# Altium integrated library TI Power Management Power Modules.IntLib: 831 symbols (part 6 of 44)
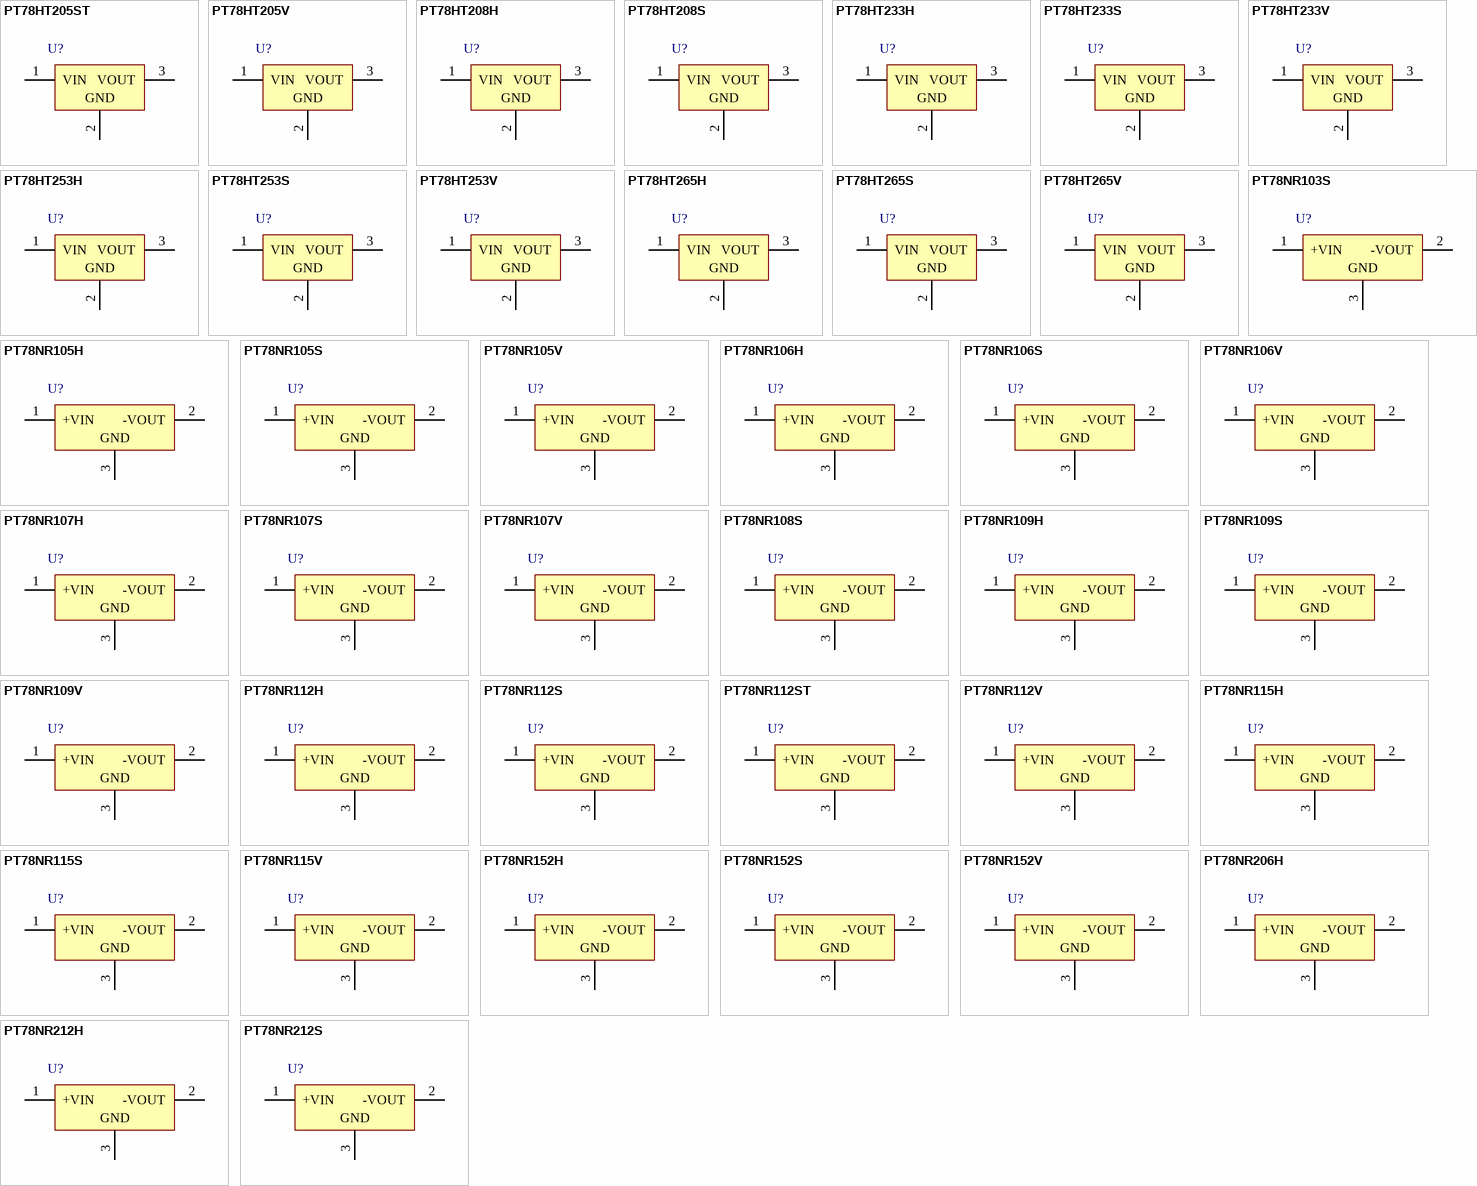
[diagram p28: symbols PT78HT205ST to PT78NR212S]

## PT78HT253S
designator U?
5.25 V Vout 2 Amp Wide-Input Positive Step-Down ISR, -40 to 85 degC, 3-pin Module (EFC3), Pb-Free (RoHS); Manufacturer: Texas Instruments; PartNumber: PT78HT253S; Iout(Max)(A): 2; Regulated Outputs(#): 1; SubFamily: Non-Isolated POL; Vin(Max)(V): 28; Vin(Min)(V): 9.25; Vout(Max)(V): 5.25; DatasheetVersion: SLTS057B; PackageVersion: 4203862/C; PackageReference: EFC3; PackageDescription: 3-Pin Plastic In-Line, Body 23.87 x 22.86 mm; Supplier 1: Digi-Key; Supplier Part Number 1: 296-20253-ND; Supplier 2: Newark; Supplier Part Number 2: 75C7153; Supplier 3: Mouser; Supplier Part Number 3: 595-PT78HT253S; Eco-Plan: Pb-Free (RoHS); Vout(Min)(V): 5.25; Mounting Technology: Surface Mount; ComponentLink1Description: Manufacturer URL; ComponentLink1URL: http://www.ti.com/; ComponentLink2Description: Datasheet; ComponentLink2URL: http://www.ti.com/general/docs/lit/getliterature.tsp?genericPartNumber=PT78HT253&fileType=pdf; ComponentLink3Description: Package Specification; ComponentLink3URL: http://www.ti.com/lit/ml/mpsi050b/mpsi050b.pdf; ComponentLink4Description: URL Link1; ComponentLink4URL: Samples URL:http://www.ti.com/product/pt78ht253#samples
footprint TI-EFC3_V (3-Leads Plastic In-Line, Body 22.86x23.87mm)
pins: 1 VIN (power), 2 GND (power), 3 VOUT (power)

## PT78HT253V
designator U?
5.25 V Vout 2 Amp Wide-Input Positive Step-Down ISR, -40 to 85 degC, 3-pin Module (EFD3), Pb-Free (RoHS); Manufacturer: Texas Instruments; PartNumber: PT78HT253V; Iout(Max)(A): 2; Regulated Outputs(#): 1; SubFamily: Non-Isolated POL; Vin(Max)(V): 28; Vin(Min)(V): 9.25; Vout(Max)(V): 5.25; DatasheetVersion: SLTS057B; PackageVersion: 4203860/A; PackageReference: EFD3; PackageDescription: 3-Pin Plastic In-Line, Body 23.87 x 22.86 mm; Supplier 1: Digi-Key; Supplier Part Number 1: 296-20254-ND; Supplier 2: Newark; Supplier Part Number 2: 75C7154; Supplier 3: Mouser; Supplier Part Number 3: 595-PT78HT253V; Eco-Plan: Pb-Free (RoHS); Vout(Min)(V): 5.25; Mounting Technology: Through Hole; ComponentLink1Description: Manufacturer URL; ComponentLink1URL: http://www.ti.com/; ComponentLink2Description: Datasheet; ComponentLink2URL: http://www.ti.com/general/docs/lit/getliterature.tsp?genericPartNumber=PT78HT253&fileType=pdf; ComponentLink3Description: Package Specification; ComponentLink3URL: http://www.ti.com/lit/ml/mpsi048/mpsi048.pdf; ComponentLink4Description: URL Link1; ComponentLink4URL: Samples URL:http://www.ti.com/product/tps55010#samples
footprint TI-EFD3_V (Module, 3-Leads, Body 22.86x7.87mm)
pins: 1 VIN (power), 2 GND (power), 3 VOUT (power)

## PT78HT265H
designator U?
6.5 V Vout 2 Amp Wide-Input Positive Step-Down ISR, -40 to 85 degC, 3-pin Module (EFA3), Pb-Free (RoHS); Manufacturer: Texas Instruments; PartNumber: PT78HT265H; Iout(Max)(A): 2; Regulated Outputs(#): 1; SubFamily: Non-Isolated POL; Vin(Max)(V): 28; Vin(Min)(V): 10.5; Vout(Max)(V): 6.5; DatasheetVersion: SLTS057B; PackageVersion: 4203861/C; PackageReference: EFA3; PackageDescription: 3-Pin Plastic In-Line, Body 23.87 x 22.86 mm; Supplier 1: Digi-Key; Supplier Part Number 1: 296-32700-ND; Supplier 2: Farnell; Supplier Part Number 2: 1612817; Supplier 3: Newark; Supplier Part Number 3: 78M1806; Supplier 4: Mouser; Supplier Part Number 4: 595-PT78HT265H; Eco-Plan: Pb-Free (RoHS); Vout(Min)(V): 6.5; Mounting Technology: Through Hole; ComponentLink1Description: Manufacturer URL; ComponentLink1URL: http://www.ti.com/; ComponentLink2Description: Datasheet; ComponentLink2URL: http://www.ti.com/general/docs/lit/getliterature.tsp?genericPartNumber=PT78HT265&fileType=pdf; ComponentLink3Description: Package Specification; ComponentLink3URL: http://www.ti.com/lit/ml/mpsi049b/mpsi049b.pdf; ComponentLink4Description: URL Link1; ComponentLink4URL: Samples URL:http://www.ti.com/product/pt78ht265#samples
footprint TI-EFA3_V (Module, 3-Leads, Body 23.87x22.86 mm)
pins: 1 VIN (power), 2 GND (power), 3 VOUT (power)

## PT78HT265S
designator U?
6.5 V Vout 2 Amp Wide-Input Positive Step-Down ISR, -40 to 85 degC, 3-pin Module (EFC3), Pb-Free (RoHS); Manufacturer: Texas Instruments; PartNumber: PT78HT265S; Iout(Max)(A): 2; Regulated Outputs(#): 1; SubFamily: Non-Isolated POL; Vin(Max)(V): 28; Vin(Min)(V): 10.5; Vout(Max)(V): 6.5; DatasheetVersion: SLTS057B; PackageVersion: 4203862/C; PackageReference: EFC3; PackageDescription: 3-Pin Plastic In-Line, Body 23.87 x 22.86 mm; Supplier 1: Digi-Key; Supplier Part Number 1: 296-20255-ND; Supplier 2: Farnell; Supplier Part Number 2: 1755069; Supplier 3: Newark; Supplier Part Number 3: 75C7156; Supplier 4: Mouser; Supplier Part Number 4: 595-PT78HT265S; Eco-Plan: Pb-Free (RoHS); Vout(Min)(V): 6.5; Mounting Technology: Surface Mount; ComponentLink1Description: Manufacturer URL; ComponentLink1URL: http://www.ti.com/; ComponentLink2Description: Datasheet; ComponentLink2URL: http://www.ti.com/general/docs/lit/getliterature.tsp?genericPartNumber=PT78HT265&fileType=pdf; ComponentLink3Description: Package Specification; ComponentLink3URL: http://www.ti.com/lit/ml/mpsi050b/mpsi050b.pdf; ComponentLink4Description: URL Link1; ComponentLink4URL: Samples URL:http://www.ti.com/product/pt78ht265#samples
footprint TI-EFC3_V (3-Leads Plastic In-Line, Body 22.86x23.87mm)
pins: 1 VIN (power), 2 GND (power), 3 VOUT (power)

## PT78HT265V
designator U?
6.5 V Vout 2 Amp Wide-Input Positive Step-Down ISR, -40 to 85 degC, 3-pin Module (EFD3), Pb-Free (RoHS); Manufacturer: Texas Instruments; PartNumber: PT78HT265V; Iout(Max)(A): 2; Regulated Outputs(#): 1; SubFamily: Non-Isolated POL; Vin(Max)(V): 28; Vin(Min)(V): 10.5; Vout(Max)(V): 6.5; DatasheetVersion: SLTS057B; PackageVersion: 4203860/A; PackageReference: EFD3; PackageDescription: 3-Pin Plastic In-Line, Body 23.87 x 22.86 mm; Supplier 1: Digi-Key; Supplier Part Number 1: 296-20256-ND; Supplier 2: Newark; Supplier Part Number 2: 75C7158; Supplier 3: Mouser; Supplier Part Number 3: 595-PT78HT265V; Eco-Plan: Pb-Free (RoHS); Vout(Min)(V): 6.5; Mounting Technology: Through Hole; ComponentLink1Description: Manufacturer URL; ComponentLink1URL: http://www.ti.com/; ComponentLink2Description: Datasheet; ComponentLink2URL: http://www.ti.com/general/docs/lit/getliterature.tsp?genericPartNumber=PT78HT265&fileType=pdf; ComponentLink3Description: Package Specification; ComponentLink3URL: http://www.ti.com/lit/ml/mpsi048/mpsi048.pdf; ComponentLink4Description: URL Link1; ComponentLink4URL: Samples URL:http://www.ti.com/product/pt78ht265#samples
footprint TI-EFD3_V (Module, 3-Leads, Body 22.86x7.87mm)
pins: 1 VIN (power), 2 GND (power), 3 VOUT (power)

## PT78NR103S
designator U?
-3 V Vout 1 Amp Wide-Input Plus to Minus Voltage ISR, -40 to 85 degC, 3-pin Module (EFC3), Pb-Free (RoHS); Manufacturer: Texas Instruments; PartNumber: PT78NR103S; Iout(Max)(A): 1; SubFamily: Non-Isolated POL; Vin(Max)(V): 25; Vin(Min)(V): 7; DatasheetVersion: SLTS058B; PackageVersion: 4203862/C; PackageReference: EFC3; PackageDescription: 3-Pin Plastic In-Line, Body 23.87 x 22.86 mm; Supplier 1: Digi-Key; Supplier Part Number 1: 296-20258-ND; Supplier 2: Mouser; Supplier Part Number 2: 595-PT78NR103S; Eco-Plan: Pb-Free (RoHS); Regulated Outputs(#): 1; Vout(Max)(V): -3; Vout(Min)(V): -3; Mounting Technology: Surface Mount; ComponentLink1Description: Manufacturer URL; ComponentLink1URL: http://www.ti.com/; ComponentLink2Description: Datasheet; ComponentLink2URL: http://www.ti.com/general/docs/lit/getliterature.tsp?genericPartNumber=PT78NR103&fileType=pdf; ComponentLink3Description: Package Specification; ComponentLink3URL: http://www.ti.com/lit/ml/mpsi050b/mpsi050b.pdf; ComponentLink4Description: URL Link1; ComponentLink4URL: Samples URL:http://www.ti.com/product/pt78nr103#samples
footprint TI-EFC3_V (3-Leads Plastic In-Line, Body 22.86x23.87mm)
pins: 1 +VIN (power), 2 -VOUT (power), 3 GND (power)

## PT78NR105H
designator U?
-5 V Vout 1 Amp Wide-Input Plus to Minus Voltage ISR, -40 to 85 degC, 3-pin Module (EFA3), Pb-Free (RoHS); Manufacturer: Texas Instruments; PartNumber: PT78NR105H; Iout(Max)(A): 1; SubFamily: Non-Isolated POL; Vin(Max)(V): 25; Vin(Min)(V): 7; DatasheetVersion: SLTS058B; PackageVersion: 4203861/C; PackageReference: EFA3; PackageDescription: 3-Pin Plastic In-Line, Body 23.87 x 22.86 mm; Supplier 1: Digi-Key; Supplier Part Number 1: PT78NR105H-ND; Supplier 2: Newark; Supplier Part Number 2: 15M7373; Supplier 3: Mouser; Supplier Part Number 3: 595-PT78NR105H; Eco-Plan: Pb-Free (RoHS); Regulated Outputs(#): 1; Vout(Max)(V): -5; Vout(Min)(V): -5; Mounting Technology: Through Hole; ComponentLink1Description: Manufacturer URL; ComponentLink1URL: http://www.ti.com/; ComponentLink2Description: Datasheet; ComponentLink2URL: http://www.ti.com/general/docs/lit/getliterature.tsp?genericPartNumber=PT78NR105&fileType=pdf; ComponentLink3Description: Package Specification; ComponentLink3URL: http://www.ti.com/lit/ml/mpsi049b/mpsi049b.pdf; ComponentLink4Description: URL Link1; ComponentLink4URL: Samples URL:http://www.ti.com/product/pt78nr105#samples
footprint TI-EFA3_V (Module, 3-Leads, Body 23.87x22.86 mm)
pins: 1 +VIN (power), 2 -VOUT (power), 3 GND (power)

## PT78NR105S
designator U?
-5 V Vout 1 Amp Wide-Input Plus to Minus Voltage ISR, -40 to 85 degC, 3-pin Module (EFC3), Pb-Free (RoHS); Manufacturer: Texas Instruments; PartNumber: PT78NR105S; Iout(Max)(A): 1; SubFamily: Non-Isolated POL; Vin(Max)(V): 25; Vin(Min)(V): 7; DatasheetVersion: SLTS058B; PackageVersion: 4203862/C; PackageReference: EFC3; PackageDescription: 3-Pin Plastic In-Line, Body 23.87 x 22.86 mm; Supplier 1: Digi-Key; Supplier Part Number 1: PT78NR105S-ND; Supplier 2: Newark; Supplier Part Number 2: 75C7166; Supplier 3: Mouser; Supplier Part Number 3: 595-PT78NR105S; Eco-Plan: Pb-Free (RoHS); Regulated Outputs(#): 1; Vout(Max)(V): -5; Vout(Min)(V): -5; Mounting Technology: Surface Mount; ComponentLink1Description: Manufacturer URL; ComponentLink1URL: http://www.ti.com/; ComponentLink2Description: Datasheet; ComponentLink2URL: http://www.ti.com/general/docs/lit/getliterature.tsp?genericPartNumber=PT78NR105&fileType=pdf; ComponentLink3Description: Package Specification; ComponentLink3URL: http://www.ti.com/lit/ml/mpsi050b/mpsi050b.pdf; ComponentLink4Description: URL Link1; ComponentLink4URL: Samples URL:http://www.ti.com/product/pt78nr105#samples
footprint TI-EFC3_V (3-Leads Plastic In-Line, Body 22.86x23.87mm)
pins: 1 +VIN (power), 2 -VOUT (power), 3 GND (power)

## PT78NR105V
designator U?
-5 V Vout 1 Amp Wide-Input Plus to Minus Voltage ISR, -40 to 85 degC, 3-pin Module (EFD3), Pb-Free (RoHS); Manufacturer: Texas Instruments; PartNumber: PT78NR105V; Iout(Max)(A): 1; SubFamily: Non-Isolated POL; Vin(Max)(V): 25; Vin(Min)(V): 7; DatasheetVersion: SLTS058B; PackageVersion: 4203860/A; PackageReference: EFD3; PackageDescription: 3-Pin Plastic In-Line, Body 23.87 x 22.86 mm; Supplier 1: Digi-Key; Supplier Part Number 1: PT78NR105V-ND; Supplier 2: Newark; Supplier Part Number 2: 75C7168; Supplier 3: Mouser; Supplier Part Number 3: 595-PT78NR105V; Eco-Plan: Pb-Free (RoHS); Regulated Outputs(#): 1; Vout(Max)(V): -5; Vout(Min)(V): -5; Mounting Technology: Through Hole; ComponentLink1Description: Manufacturer URL; ComponentLink1URL: http://www.ti.com/; ComponentLink2Description: Datasheet; ComponentLink2URL: http://www.ti.com/general/docs/lit/getliterature.tsp?genericPartNumber=PT78NR105&fileType=pdf; ComponentLink3Description: Package Specification; ComponentLink3URL: http://www.ti.com/lit/ml/mpsi048/mpsi048.pdf; ComponentLink4Description: URL Link1; ComponentLink4URL: Samples URL:http://www.ti.com/product/pt78nr105#samples
footprint TI-EFD3_V (Module, 3-Leads, Body 22.86x7.87mm)
pins: 1 +VIN (power), 2 -VOUT (power), 3 GND (power)

## PT78NR106H
designator U?
-6 V Vout, 0.8 Amp Wide-Input Plus to Minus Voltage ISR, -40 to 85 degC, 3-pin Module (EFA3), Pb-Free (RoHS); Manufacturer: Texas Instruments; PartNumber: PT78NR106H; Iout(Max)(A): 0.8; Regulated Outputs(#): 1; SubFamily: Non-Isolated POL; Vin(Max)(V): 21; Vin(Min)(V): 7; DatasheetVersion: SLTS058B; PackageVersion: 4203861/C; PackageReference: EFA3; PackageDescription: 3-Pin Plastic In-Line, Body 23.87 x 22.86 mm; Supplier 1: Digi-Key; Supplier Part Number 1: PT78NR106H-ND; Supplier 2: Newark; Supplier Part Number 2: 75C7169; Supplier 3: Mouser; Supplier Part Number 3: 595-PT78NR106H; Eco-Plan: Pb-Free (RoHS); Vout(Max)(V): -6; Vout(Min)(V): -6; Mounting Technology: Through Hole; ComponentLink1Description: Manufacturer URL; ComponentLink1URL: http://www.ti.com/; ComponentLink2Description: Datasheet; ComponentLink2URL: http://www.ti.com/general/docs/lit/getliterature.tsp?genericPartNumber=PT78NR106&fileType=pdf; ComponentLink3Description: Package Specification; ComponentLink3URL: http://www.ti.com/lit/ml/mpsi049b/mpsi049b.pdf; ComponentLink4Description: URL Link1; ComponentLink4URL: Samples URL:http://www.ti.com/product/pt78nr106#samples
footprint TI-EFA3_V (Module, 3-Leads, Body 23.87x22.86 mm)
pins: 1 +VIN (power), 2 -VOUT (power), 3 GND (power)

## PT78NR106S
designator U?
-6 V Vout, 0.8 Amp Wide-Input Plus to Minus Voltage ISR, -40 to 85 degC, 3-pin Module (EFC3), Pb-Free (RoHS); Manufacturer: Texas Instruments; PartNumber: PT78NR106S; Iout(Max)(A): 0.8; Regulated Outputs(#): 1; SubFamily: Non-Isolated POL; Vin(Max)(V): 21; Vin(Min)(V): 7; DatasheetVersion: SLTS058B; PackageVersion: 4203862/C; PackageReference: EFC3; PackageDescription: 3-Pin Plastic In-Line, Body 23.87 x 22.86 mm; Supplier 1: Digi-Key; Supplier Part Number 1: 296-32701-ND; Supplier 2: Newark; Supplier Part Number 2: 75C7170; Supplier 3: Mouser; Supplier Part Number 3: 595-PT78NR106S; Eco-Plan: Pb-Free (RoHS); Vout(Max)(V): -6; Vout(Min)(V): -6; Mounting Technology: Surface Mount; ComponentLink1Description: Manufacturer URL; ComponentLink1URL: http://www.ti.com/; ComponentLink2Description: Datasheet; ComponentLink2URL: http://www.ti.com/general/docs/lit/getliterature.tsp?genericPartNumber=PT78NR106&fileType=pdf; ComponentLink3Description: Package Specification; ComponentLink3URL: http://www.ti.com/lit/ml/mpsi050b/mpsi050b.pdf; ComponentLink4Description: URL Link1; ComponentLink4URL: Samples URL:http://www.ti.com/product/pt78nr106#samples
footprint TI-EFC3_V (3-Leads Plastic In-Line, Body 22.86x23.87mm)
pins: 1 +VIN (power), 2 -VOUT (power), 3 GND (power)

## PT78NR106V
designator U?
-6 V Vout, 0.8 Amp Wide-Input Plus to Minus Voltage ISR, -40 to 85 degC, 3-pin Module (EFD3); Manufacturer: Texas Instruments; PartNumber: PT78NR106V; Iout(Max)(A): 0.8; Regulated Outputs(#): 1; SubFamily: Non-Isolated POL; Vin(Max)(V): 21; Vin(Min)(V): 7; DatasheetVersion: SLTS058B; PackageVersion: 4203860/A; PackageReference: EFD3; PackageDescription: 3-Pin Plastic In-Line, Body 23.87 x 22.86 mm; Supplier 1: Digi-Key; Supplier Part Number 1: 296-20260-ND; Supplier 2: Mouser; Supplier Part Number 2: 595-PT78NR106V; Vout(Max)(V): -6; Vout(Min)(V): -6; Mounting Technology: Through Hole; ComponentLink1Description: Manufacturer URL; ComponentLink1URL: http://www.ti.com/; ComponentLink2Description: Datasheet; ComponentLink2URL: http://www.ti.com/general/docs/lit/getliterature.tsp?genericPartNumber=PT78NR106&fileType=pdf; ComponentLink3Description: Package Specification; ComponentLink3URL: http://www.ti.com/lit/ml/mpsi048/mpsi048.pdf; ComponentLink4Description: URL Link1; ComponentLink4URL: Samples URL:http://www.ti.com/product/pt78nr106#samples
footprint TI-EFD3_V (Module, 3-Leads, Body 22.86x7.87mm)
pins: 1 +VIN (power), 2 -VOUT (power), 3 GND (power)

## PT78NR107H
designator U?
-7 V Vout 0.55 Amp Wide-Input Plus to Minus Voltage ISR, -40 to 85 degC, 3-pin Module (EFA3), Pb-Free (RoHS); Manufacturer: Texas Instruments; PartNumber: PT78NR107H; Iout(Max)(A): 0.55; Regulated Outputs(#): 1; SubFamily: Non-Isolated POL; Vin(Max)(V): 21; Vin(Min)(V): 7; DatasheetVersion: SLTS058B; PackageVersion: 4203861/C; PackageReference: EFA3; PackageDescription: 3-Pin Plastic In-Line, Body 23.87 x 22.86 mm; Supplier 1: Digi-Key; Supplier Part Number 1: PT78NR107H-ND; Supplier 2: Newark; Supplier Part Number 2: 75C7173; Supplier 3: Mouser; Supplier Part Number 3: 595-PT78NR107H; Eco-Plan: Pb-Free (RoHS); Vout(Max)(V): -7; Vout(Min)(V): -7; Mounting Technology: Through Hole; ComponentLink1Description: Manufacturer URL; ComponentLink1URL: http://www.ti.com/; ComponentLink2Description: Datasheet; ComponentLink2URL: http://www.ti.com/general/docs/lit/getliterature.tsp?genericPartNumber=PT78NR107&fileType=pdf; ComponentLink3Description: Package Specification; ComponentLink3URL: http://www.ti.com/lit/ml/mpsi049b/mpsi049b.pdf; ComponentLink4Description: URL Link1; ComponentLink4URL: Samples URL:http://www.ti.com/product/pt78nr107#samples
footprint TI-EFA3_V (Module, 3-Leads, Body 23.87x22.86 mm)
pins: 1 +VIN (power), 2 -VOUT (power), 3 GND (power)

## PT78NR107S
designator U?
-7 V Vout 0.55 Amp Wide-Input Plus to Minus Voltage ISR, -40 to 85 degC, 3-pin Module (EFC3), Pb-Free (RoHS); Manufacturer: Texas Instruments; PartNumber: PT78NR107S; Iout(Max)(A): 0.55; Regulated Outputs(#): 1; SubFamily: Non-Isolated POL; Vin(Max)(V): 21; Vin(Min)(V): 7; DatasheetVersion: SLTS058B; PackageVersion: 4203862/C; PackageReference: EFC3; PackageDescription: 3-Pin Plastic In-Line, Body 23.87 x 22.86 mm; Supplier 1: Digi-Key; Supplier Part Number 1: PT78NR107S-ND; Supplier 2: Newark; Supplier Part Number 2: 75C7174; Supplier 3: Mouser; Supplier Part Number 3: 595-PT78NR107S; Eco-Plan: Pb-Free (RoHS); Vout(Max)(V): -7; Vout(Min)(V): -7; Mounting Technology: Surface Mount; ComponentLink1Description: Manufacturer URL; ComponentLink1URL: http://www.ti.com/; ComponentLink2Description: Datasheet; ComponentLink2URL: http://www.ti.com/general/docs/lit/getliterature.tsp?genericPartNumber=PT78NR107&fileType=pdf; ComponentLink3Description: Package Specification; ComponentLink3URL: http://www.ti.com/lit/ml/mpsi050b/mpsi050b.pdf; ComponentLink4Description: URL Link1; ComponentLink4URL: Samples URL:http://www.ti.com/product/pt78nr107#samples
footprint TI-EFC3_V (3-Leads Plastic In-Line, Body 22.86x23.87mm)
pins: 1 +VIN (power), 2 -VOUT (power), 3 GND (power)

## PT78NR107V
designator U?
-7 V Vout 0.55 Amp Wide-Input Plus to Minus Voltage ISR, -40 to 85 degC, 3-pin Module (EFD3), Pb-Free (RoHS); Manufacturer: Texas Instruments; PartNumber: PT78NR107V; Iout(Max)(A): 0.55; Regulated Outputs(#): 1; SubFamily: Non-Isolated POL; Vin(Max)(V): 21; Vin(Min)(V): 7; DatasheetVersion: SLTS058B; PackageVersion: 4203860/A; PackageReference: EFD3; PackageDescription: 3-Pin Plastic In-Line, Body 23.87 x 22.86 mm; Supplier 1: Digi-Key; Supplier Part Number 1: PT78NR107V-ND; Supplier 2: Mouser; Supplier Part Number 2: 595-PT78NR107V; Eco-Plan: Pb-Free (RoHS); Vout(Max)(V): -7; Vout(Min)(V): -7; Mounting Technology: Through Hole; ComponentLink1Description: Manufacturer URL; ComponentLink1URL: http://www.ti.com/; ComponentLink2Description: Datasheet; ComponentLink2URL: http://www.ti.com/general/docs/lit/getliterature.tsp?genericPartNumber=PT78NR107&fileType=pdf; ComponentLink3Description: Package Specification; ComponentLink3URL: http://www.ti.com/lit/ml/mpsi048/mpsi048.pdf; ComponentLink4Description: URL Link1; ComponentLink4URL: Samples URL:http://www.ti.com/product/pt78nr107#samples
footprint TI-EFD3_V (Module, 3-Leads, Body 22.86x7.87mm)
pins: 1 +VIN (power), 2 -VOUT (power), 3 GND (power)

## PT78NR108S
designator U?
-8 V Vout 0.55 Amp Wide-Input Plus to Minus Voltage ISR, -40 to 85 degC, 3-pin Module (EFC3), Pb-Free (RoHS); Manufacturer: Texas Instruments; PartNumber: PT78NR108S; Iout(Max)(A): 0.55; Regulated Outputs(#): 1; SubFamily: Non-Isolated POL; Vin(Max)(V): 21; Vin(Min)(V): 7; DatasheetVersion: SLTS058B; PackageVersion: 4203862/C; PackageReference: EFC3; PackageDescription: 3-Pin Plastic In-Line, Body 23.87 x 22.86 mm; Supplier 1: Digi-Key; Supplier Part Number 1: PT78NR108S-ND; Supplier 2: Newark; Supplier Part Number 2: 75C7178; Supplier 3: Mouser; Supplier Part Number 3: 595-PT78NR108S; Eco-Plan: Pb-Free (RoHS); Vout(Max)(V): -8; Vout(Min)(V): -8; Mounting Technology: Surface Mount; ComponentLink1Description: Manufacturer URL; ComponentLink1URL: http://www.ti.com/; ComponentLink2Description: Datasheet; ComponentLink2URL: http://www.ti.com/general/docs/lit/getliterature.tsp?genericPartNumber=PT78NR108&fileType=pdf; ComponentLink3Description: Package Specification; ComponentLink3URL: http://www.ti.com/lit/ml/mpsi050b/mpsi050b.pdf; ComponentLink4Description: URL Link1; ComponentLink4URL: Samples URL:http://www.ti.com/product/pt78nr108#samples
footprint TI-EFC3_V (3-Leads Plastic In-Line, Body 22.86x23.87mm)
pins: 1 +VIN (power), 2 -VOUT (power), 3 GND (power)

## PT78NR109H
designator U?
-9 V Vout 0.55 Amp Wide-Input Plus to Minus Voltage ISR, -40 to 85 degC, 3-pin Module (EFA3), Pb-Free (RoHS); Manufacturer: Texas Instruments; PartNumber: PT78NR109H; Iout(Max)(A): 1; SubFamily: Buck/Boost & Negative Output Module; Vin(Max)(V): 25; Vin(Min)(V): 7; Vout(Max)(V): -5; DatasheetVersion: SLTS058B; PackageVersion: 4203861/C; PackageReference: EFA3; PackageDescription: 3-Pin Plastic In-Line, Body 23.87 x 22.86 mm; Supplier 1: Digi-Key; Supplier Part Number 1: 296-20261-ND; Supplier 2: Newark; Supplier Part Number 2: 75C7181; Supplier 3: Mouser; Supplier Part Number 3: 595-PT78NR109H; Eco-Plan: Pb-Free (RoHS); Regulated Outputs(#): 1; Vout(Min)(V): -5; Mounting Technology: Through Hole; ComponentLink1Description: Manufacturer URL; ComponentLink1URL: http://www.ti.com/; ComponentLink2Description: Datasheet; ComponentLink2URL: http://www.ti.com/general/docs/lit/getliterature.tsp?genericPartNumber=PT78NR109&fileType=pdf; ComponentLink3Description: Package Specification; ComponentLink3URL: http://www.ti.com/lit/ml/mpsi049b/mpsi049b.pdf; ComponentLink4Description: URL Link1; ComponentLink4URL: Samples URL:http://www.ti.com/product/pt78nr109#samples
footprint TI-EFA3_V (Module, 3-Leads, Body 23.87x22.86 mm)
pins: 1 +VIN (power), 2 -VOUT (power), 3 GND (power)

## PT78NR109S
designator U?
-9 V Vout 0.55 Amp Wide-Input Plus to Minus Voltage ISR, -40 to 85 degC, 3-pin Module (EFC3), Pb-Free (RoHS); Manufacturer: Texas Instruments; PartNumber: PT78NR109S; Iout(Max)(A): 1; SubFamily: Buck/Boost & Negative Output Module; Vin(Max)(V): 25; Vin(Min)(V): 7; Vout(Max)(V): -5; DatasheetVersion: SLTS058B; PackageVersion: 4203862/C; PackageReference: EFC3; PackageDescription: 3-Pin Plastic In-Line, Body 23.87 x 22.86 mm; Supplier 1: Digi-Key; Supplier Part Number 1: 296-20262-ND; Supplier 2: Newark; Supplier Part Number 2: 75C7182; Supplier 3: Mouser; Supplier Part Number 3: 595-PT78NR109S; Eco-Plan: Pb-Free (RoHS); Regulated Outputs(#): 1; Vout(Min)(V): -5; Mounting Technology: Surface Mount; ComponentLink1Description: Manufacturer URL; ComponentLink1URL: http://www.ti.com/; ComponentLink2Description: Datasheet; ComponentLink2URL: http://www.ti.com/general/docs/lit/getliterature.tsp?genericPartNumber=PT78NR109&fileType=pdf; ComponentLink3Description: Package Specification; ComponentLink3URL: http://www.ti.com/lit/ml/mpsi050b/mpsi050b.pdf; ComponentLink4Description: URL Link1; ComponentLink4URL: Samples URL:http://www.ti.com/product/pt78nr109#samples
footprint TI-EFC3_V (3-Leads Plastic In-Line, Body 22.86x23.87mm)
pins: 1 +VIN (power), 2 -VOUT (power), 3 GND (power)

## PT78NR109V
designator U?
-9 V Vout 0.55 Amp Wide-Input Plus to Minus Voltage ISR, -40 to 85 degC, 3-pin Module (EFD3), Pb-Free (RoHS); Manufacturer: Texas Instruments; PartNumber: PT78NR109V; Iout(Max)(A): 1; SubFamily: Buck/Boost & Negative Output Module; Vin(Max)(V): 25; Vin(Min)(V): 7; Vout(Max)(V): -5; DatasheetVersion: SLTS058B; PackageVersion: 4203860/A; PackageReference: EFD3; PackageDescription: 3-Pin Plastic In-Line, Body 23.87 x 22.86 mm; Supplier 1: Digi-Key; Supplier Part Number 1: PT78NR109V-ND; Supplier 2: Newark; Supplier Part Number 2: 14M8607; Supplier 3: Mouser; Supplier Part Number 3: 595-PT78NR109V; Eco-Plan: Pb-Free (RoHS); Regulated Outputs(#): 1; Vout(Min)(V): -5; Mounting Technology: Through Hole; ComponentLink1Description: Manufacturer URL; ComponentLink1URL: http://www.ti.com/; ComponentLink2Description: Datasheet; ComponentLink2URL: http://www.ti.com/general/docs/lit/getliterature.tsp?genericPartNumber=PT78NR109&fileType=pdf; ComponentLink3Description: Package Specification; ComponentLink3URL: http://www.ti.com/lit/ml/mpsi048/mpsi048.pdf; ComponentLink4Description: URL Link1; ComponentLink4URL: Samples URL:http://www.ti.com/product/tps55010#samples
footprint TI-EFD3_V (Module, 3-Leads, Body 22.86x7.87mm)
pins: 1 +VIN (power), 2 -VOUT (power), 3 GND (power)

## PT78NR112H
designator U?
-12 V Vout 0.4 Amp Wide-Input Plus to Minus Voltage ISR, -40 to 85 degC, 3-pin Module (EFA3), Pb-Free (RoHS); Manufacturer: Texas Instruments; PartNumber: PT78NR112H; Iout(Max)(A): 0.4; Regulated Outputs(#): 1; SubFamily: Non-Isolated POL; Vin(Max)(V): 18; Vin(Min)(V): 7; DatasheetVersion: SLTS058B; PackageVersion: 4203861/C; PackageReference: EFA3; PackageDescription: 3-Pin Plastic In-Line, Body 23.87 x 22.86 mm; Supplier 1: Digi-Key; Supplier Part Number 1: PT78NR112H-ND; Supplier 2: Newark; Supplier Part Number 2: 15M7374; Supplier 3: Mouser; Supplier Part Number 3: 595-PT78NR112H; Eco-Plan: Pb-Free (RoHS); Vout(Max)(V): -12; Vout(Min)(V): -12; Mounting Technology: Through Hole; ComponentLink1Description: Manufacturer URL; ComponentLink1URL: http://www.ti.com/; ComponentLink2Description: Datasheet; ComponentLink2URL: http://www.ti.com/general/docs/lit/getliterature.tsp?genericPartNumber=PT78NR112&fileType=pdf; ComponentLink3Description: Package Specification; ComponentLink3URL: http://www.ti.com/lit/ml/mpsi049b/mpsi049b.pdf; ComponentLink4Description: URL Link1; ComponentLink4URL: Samples URL:http://www.ti.com/product/pt78nr112#samples
footprint TI-EFA3_V (Module, 3-Leads, Body 23.87x22.86 mm)
pins: 1 +VIN (power), 2 -VOUT (power), 3 GND (power)

## PT78NR112S
designator U?
-12 V Vout 0.4 Amp Wide-Input Plus to Minus Voltage ISR, -40 to 85 degC, 3-pin Module (EFC3), Pb-Free (RoHS); Manufacturer: Texas Instruments; PartNumber: PT78NR112S; Iout(Max)(A): 0.4; Regulated Outputs(#): 1; SubFamily: Non-Isolated POL; Vin(Max)(V): 18; Vin(Min)(V): 7; DatasheetVersion: SLTS058B; PackageVersion: 4203862/C; PackageReference: EFC3; PackageDescription: 3-Pin Plastic In-Line, Body 23.87 x 22.86 mm; Supplier 1: Digi-Key; Supplier Part Number 1: PT78NR112S-ND; Supplier 2: Newark; Supplier Part Number 2: 14M8608; Supplier 3: Mouser; Supplier Part Number 3: 595-PT78NR112S; Eco-Plan: Pb-Free (RoHS); Vout(Max)(V): -12; Vout(Min)(V): -12; Mounting Technology: Surface Mount; ComponentLink1Description: Manufacturer URL; ComponentLink1URL: http://www.ti.com/; ComponentLink2Description: Datasheet; ComponentLink2URL: http://www.ti.com/general/docs/lit/getliterature.tsp?genericPartNumber=PT78NR112&fileType=pdf; ComponentLink3Description: Package Specification; ComponentLink3URL: http://www.ti.com/lit/ml/mpsi050b/mpsi050b.pdf; ComponentLink4Description: URL Link1; ComponentLink4URL: Samples URL:http://www.ti.com/product/pt78nr112#samples
footprint TI-EFC3_V (3-Leads Plastic In-Line, Body 22.86x23.87mm)
pins: 1 +VIN (power), 2 -VOUT (power), 3 GND (power)

## PT78NR112ST
designator U?
-12 V Vout 0.4 Amp Wide-Input Plus to Minus Voltage ISR, -40 to 85 degC, 3-pin Module (EFC3), Pb-Free (RoHS); Manufacturer: Texas Instruments; PartNumber: PT78NR112ST; Iout(Max)(A): 0.4; Regulated Outputs(#): 1; SubFamily: Non-Isolated POL; Vin(Max)(V): 18; Vin(Min)(V): 7; DatasheetVersion: SLTS058B; PackageVersion: 4203862/C; PackageReference: EFC3; PackageDescription: 3-Pin Plastic In-Line, Body 23.87 x 22.86 mm; Supplier 1: Digi-Key; Supplier Part Number 1: PT78NR112ST-ND; Supplier 2: Newark; Supplier Part Number 2: 75C7190; Supplier 3: Mouser; Supplier Part Number 3: 595-PT78NR112ST; Eco-Plan: Pb-Free (RoHS); Vout(Max)(V): -12; Vout(Min)(V): -12; Mounting Technology: Surface Mount; ComponentLink1Description: Manufacturer URL; ComponentLink1URL: http://www.ti.com/; ComponentLink2Description: Datasheet; ComponentLink2URL: http://www.ti.com/general/docs/lit/getliterature.tsp?genericPartNumber=PT78NR112&fileType=pdf; ComponentLink3Description: Package Specification; ComponentLink3URL: http://www.ti.com/lit/ml/mpsi050b/mpsi050b.pdf; ComponentLink4Description: URL Link1; ComponentLink4URL: Samples URL:http://www.ti.com/product/pt78nr112#samples
footprint TI-EFC3_V (3-Leads Plastic In-Line, Body 22.86x23.87mm)
pins: 1 +VIN (power), 2 -VOUT (power), 3 GND (power)

## PT78NR112V
designator U?
-12 V Vout 0.4 Amp Wide-Input Plus to Minus Voltage ISR, -40 to 85 degC, 3-pin Module (EFD3), Pb-Free (RoHS); Manufacturer: Texas Instruments; PartNumber: PT78NR112V; Iout(Max)(A): 0.4; Regulated Outputs(#): 1; SubFamily: Non-Isolated POL; Vin(Max)(V): 18; Vin(Min)(V): 7; DatasheetVersion: SLTS058B; PackageVersion: 4203860/A; PackageReference: EFD3; PackageDescription: 3-Pin Plastic In-Line, Body 23.87 x 22.86 mm; Supplier 1: Digi-Key; Supplier Part Number 1: PT78NR112V-ND; Supplier 2: Farnell; Supplier Part Number 2: 1296019; Supplier 3: Newark; Supplier Part Number 3: 75C7191; Supplier 4: Mouser; Supplier Part Number 4: 595-PT78NR112V; Eco-Plan: Pb-Free (RoHS); Vout(Max)(V): -12; Vout(Min)(V): -12; Mounting Technology: Through Hole; ComponentLink1Description: Manufacturer URL; ComponentLink1URL: http://www.ti.com/; ComponentLink2Description: Datasheet; ComponentLink2URL: http://www.ti.com/general/docs/lit/getliterature.tsp?genericPartNumber=PT78NR112&fileType=pdf; ComponentLink3Description: Package Specification; ComponentLink3URL: http://www.ti.com/lit/ml/mpsi048/mpsi048.pdf; ComponentLink4Description: URL Link1; ComponentLink4URL: Samples URL:http://www.ti.com/product/tps55010#samples
footprint TI-EFD3_V (Module, 3-Leads, Body 22.86x7.87mm)
pins: 1 +VIN (power), 2 -VOUT (power), 3 GND (power)

## PT78NR115H
designator U?
-15 V Vout 0.3 Amp Wide-Input Plus to Minus Voltage ISR, -40 to 85 degC, 3-pin Module (EFA3), Pb-Free (RoHS); Manufacturer: Texas Instruments; PartNumber: PT78NR115H; Iout(Max)(A): 0.3; Regulated Outputs(#): 1; SubFamily: Non-Isolated POL; Vin(Max)(V): 15; Vin(Min)(V): 7; DatasheetVersion: SLTS058B; PackageVersion: 4203861/C; PackageReference: EFA3; PackageDescription: 3-Pin Plastic In-Line, Body 23.87 x 22.86 mm; Supplier 1: Digi-Key; Supplier Part Number 1: 296-20263-ND; Supplier 2: Newark; Supplier Part Number 2: 75C7196; Supplier 3: Mouser; Supplier Part Number 3: 595-PT78NR115H; Eco-Plan: Pb-Free (RoHS); Vout(Max)(V): -15; Vout(Min)(V): -15; Mounting Technology: Through Hole; ComponentLink1Description: Manufacturer URL; ComponentLink1URL: http://www.ti.com/; ComponentLink2Description: Datasheet; ComponentLink2URL: http://www.ti.com/general/docs/lit/getliterature.tsp?genericPartNumber=PT78NR115&fileType=pdf; ComponentLink3Description: Package Specification; ComponentLink3URL: http://www.ti.com/lit/ml/mpsi049b/mpsi049b.pdf; ComponentLink4Description: URL Link1; ComponentLink4URL: Samples URL:http://www.ti.com/product/pt78nr115#samples
footprint TI-EFA3_V (Module, 3-Leads, Body 23.87x22.86 mm)
pins: 1 +VIN (power), 2 -VOUT (power), 3 GND (power)

## PT78NR115S
designator U?
-15 V Vout 0.3 Amp Wide-Input Plus to Minus Voltage ISR, -40 to 85 degC, 3-pin Module (EFC3), Pb-Free (RoHS); Manufacturer: Texas Instruments; PartNumber: PT78NR115S; Iout(Max)(A): 0.3; Regulated Outputs(#): 1; SubFamily: Non-Isolated POL; Vin(Max)(V): 15; Vin(Min)(V): 7; DatasheetVersion: SLTS058B; PackageVersion: 4203862/C; PackageReference: EFC3; PackageDescription: 3-Pin Plastic In-Line, Body 23.87 x 22.86 mm; Supplier 1: Digi-Key; Supplier Part Number 1: 296-20264-ND; Supplier 2: Newark; Supplier Part Number 2: 34C6249; Supplier 3: Mouser; Supplier Part Number 3: 595-PT78NR115S; Eco-Plan: Pb-Free (RoHS); Vout(Max)(V): -15; Vout(Min)(V): -15; Mounting Technology: Surface Mount; ComponentLink1Description: Manufacturer URL; ComponentLink1URL: http://www.ti.com/; ComponentLink2Description: Datasheet; ComponentLink2URL: http://www.ti.com/general/docs/lit/getliterature.tsp?genericPartNumber=PT78NR115&fileType=pdf; ComponentLink3Description: Package Specification; ComponentLink3URL: http://www.ti.com/lit/ml/mpsi050b/mpsi050b.pdf; ComponentLink4Description: URL Link1; ComponentLink4URL: Samples URL:http://www.ti.com/product/pt78nr115#samples
footprint TI-EFC3_V (3-Leads Plastic In-Line, Body 22.86x23.87mm)
pins: 1 +VIN (power), 2 -VOUT (power), 3 GND (power)

## PT78NR115V
designator U?
-15 V Vout 0.3 Amp Wide-Input Plus to Minus Voltage ISR, -40 to 85 degC, 3-pin Module (EFD3), Pb-Free (RoHS); Manufacturer: Texas Instruments; PartNumber: PT78NR115V; Iout(Max)(A): 0.3; Regulated Outputs(#): 1; SubFamily: Non-Isolated POL; Vin(Max)(V): 15; Vin(Min)(V): 7; DatasheetVersion: SLTS058B; PackageVersion: 4203860/A; PackageReference: EFD3; PackageDescription: 3-Pin Plastic In-Line, Body 23.87 x 22.86 mm; Supplier 1: Digi-Key; Supplier Part Number 1: 296-20265-ND; Supplier 2: Newark; Supplier Part Number 2: 32C0393; Supplier 3: Mouser; Supplier Part Number 3: 595-PT78NR115V; Eco-Plan: Pb-Free (RoHS); Vout(Max)(V): -15; Vout(Min)(V): -15; Mounting Technology: Through Hole; ComponentLink1Description: Manufacturer URL; ComponentLink1URL: http://www.ti.com/; ComponentLink2Description: Datasheet; ComponentLink2URL: http://www.ti.com/general/docs/lit/getliterature.tsp?genericPartNumber=PT78NR115&fileType=pdf; ComponentLink3Description: Package Specification; ComponentLink3URL: http://www.ti.com/lit/ml/mpsi048/mpsi048.pdf; ComponentLink4Description: URL Link1; ComponentLink4URL: Samples URL:http://www.ti.com/product/pt78nr115#samples
footprint TI-EFD3_V (Module, 3-Leads, Body 22.86x7.87mm)
pins: 1 +VIN (power), 2 -VOUT (power), 3 GND (power)

## PT78NR152H
designator U?
-5.2 V Vout 1 Amp Wide-Input Plus to Minus Voltage ISR, -40 to 85 degC, 3-pin Module (EFA3), Pb-Free (RoHS); Manufacturer: Texas Instruments; PartNumber: PT78NR152H; Iout(Max)(A): 1; SubFamily: Non-Isolated POL; Vin(Max)(V): 25; Vin(Min)(V): 7; DatasheetVersion: SLTS058B; PackageVersion: 4203861/C; PackageReference: EFA3; PackageDescription: 3-Pin Plastic In-Line, Body 23.87 x 22.86 mm; Supplier 1: Digi-Key; Supplier Part Number 1: 296-20266-ND; Supplier 2: Newark; Supplier Part Number 2: 75C7198; Supplier 3: Mouser; Supplier Part Number 3: 595-PT78NR152H; Eco-Plan: Pb-Free (RoHS); Regulated Outputs(#): 1; Vout(Max)(V): -5.2; Vout(Min)(V): -5.2; Mounting Technology: Through Hole; ComponentLink1Description: Manufacturer URL; ComponentLink1URL: http://www.ti.com/; ComponentLink2Description: Datasheet; ComponentLink2URL: http://www.ti.com/general/docs/lit/getliterature.tsp?genericPartNumber=PT78NR152&fileType=pdf; ComponentLink3Description: Package Specification; ComponentLink3URL: http://www.ti.com/lit/ml/mpsi049b/mpsi049b.pdf; ComponentLink4Description: URL Link1; ComponentLink4URL: Samples URL:http://www.ti.com/product/pt78nr152#samples
footprint TI-EFA3_V (Module, 3-Leads, Body 23.87x22.86 mm)
pins: 1 +VIN (power), 2 -VOUT (power), 3 GND (power)

## PT78NR152S
designator U?
-5.2 V Vout 1 Amp Wide-Input Plus to Minus Voltage ISR, -40 to 85 degC, 3-pin Module (EFC3), Pb-Free (RoHS); Manufacturer: Texas Instruments; PartNumber: PT78NR152S; Iout(Max)(A): 1; SubFamily: Non-Isolated POL; Vin(Max)(V): 25; Vin(Min)(V): 7; DatasheetVersion: SLTS058B; PackageVersion: 4203862/C; PackageReference: EFC3; PackageDescription: 3-Pin Plastic In-Line, Body 23.87 x 22.86 mm; Supplier 1: Digi-Key; Supplier Part Number 1: 296-20267-ND; Supplier 2: Newark; Supplier Part Number 2: 75C7199; Supplier 3: Mouser; Supplier Part Number 3: 595-PT78NR152S; Eco-Plan: Pb-Free (RoHS); Regulated Outputs(#): 1; Vout(Max)(V): -5.2; Vout(Min)(V): -5.2; Mounting Technology: Surface Mount; ComponentLink1Description: Manufacturer URL; ComponentLink1URL: http://www.ti.com/; ComponentLink2Description: Datasheet; ComponentLink2URL: http://www.ti.com/general/docs/lit/getliterature.tsp?genericPartNumber=PT78NR152&fileType=pdf; ComponentLink3Description: Package Specification; ComponentLink3URL: http://www.ti.com/lit/ml/mpsi050b/mpsi050b.pdf; ComponentLink4Description: URL Link1; ComponentLink4URL: Samples URL:http://www.ti.com/product/pt78nr152#samples
footprint TI-EFC3_V (3-Leads Plastic In-Line, Body 22.86x23.87mm)
pins: 1 +VIN (power), 2 -VOUT (power), 3 GND (power)

## PT78NR152V
designator U?
-5.2 V Vout 1 Amp Wide-Input Plus to Minus Voltage ISR, -40 to 85 degC, 3-pin Module (EFD3), Pb-Free (RoHS); Manufacturer: Texas Instruments; PartNumber: PT78NR152V; Regulated Outputs(#): 1; SubFamily: Non-Isolated POL; Vin(Max)(V): 25; Vin(Min)(V): 7; DatasheetVersion: SLTS058B; PackageVersion: 4203860/A; PackageReference: EFD3; PackageDescription: 3-Pin Plastic In-Line, Body 23.87 x 22.86 mm; Supplier 1: Digi-Key; Supplier Part Number 1: 296-20268-ND; Supplier 2: Mouser; Supplier Part Number 2: 595-PT78NR152V; Eco-Plan: Pb-Free (RoHS); Vout(Max)(V): -5.2; Vout(Min)(V): -5.2; Mounting Technology: Through Hole; ComponentLink1Description: Manufacturer URL; ComponentLink1URL: http://www.ti.com/; ComponentLink2Description: Datasheet; ComponentLink2URL: http://www.ti.com/general/docs/lit/getliterature.tsp?genericPartNumber=PT78NR152&fileType=pdf; ComponentLink3Description: Package Specification; ComponentLink3URL: http://www.ti.com/lit/ml/mpsi048/mpsi048.pdf; ComponentLink4Description: URL Link1; ComponentLink4URL: Samples URL:http://www.ti.com/product/pt78nr152
footprint TI-EFD3_V (Module, 3-Leads, Body 22.86x7.87mm)
pins: 1 +VIN (power), 2 -VOUT (power), 3 GND (power)

## PT78NR206H
designator U?
-6 V, 10 to 12 W Plus to Minus Voltage ISR, 0 to 85 degC, 3-pin Module (EFH3), Pb-Free (RoHS); Manufacturer: Texas Instruments; PartNumber: PT78NR206H; Regulated Outputs(#): 1; SubFamily: Non-Isolated POL; Vin(Max)(V): 15; Vin(Min)(V): 9; Vout(Max)(V): -6.0; DatasheetVersion: SLTS074A; PackageVersion: 4203867/B; PackageReference: EFH3; PackageDescription: 3-Pin Metal In-Line, Body 23.62 x 25.65 mm; Supplier 1: Digi-Key; Supplier Part Number 1: 296-32702-ND; Supplier 2: Newark; Supplier Part Number 2: 75C7202; Supplier 3: Mouser; Supplier Part Number 3: 595-PT78NR206H; Eco-Plan: Pb-Free (RoHS); Vout(Min)(V): -6.0; Mounting Technology: Through Hole; ComponentLink1Description: Manufacturer URL; ComponentLink1URL: http://www.ti.com/; ComponentLink2Description: Datasheet; ComponentLink2URL: http://www.ti.com/general/docs/lit/getliterature.tsp?genericPartNumber=PT78NR206&fileType=pdf; ComponentLink3Description: Package Specification; ComponentLink3URL: http://www.ti.com/lit/ml/mmsi063a/mmsi063a.pdf; ComponentLink4Description: URL Link1; ComponentLink4URL: Samples URL:http://www.ti.com/product/pt78nr206
footprint TI-EFH3_V (Module, 3-Leads, Body 26.65x23.62mm)
pins: 1 +VIN (power), 2 -VOUT (power), 3 GND (power)

## PT78NR212H
designator U?
-12 V, 10 to 12 W Plus to Minus Voltage ISR, 0 to 85 degC, 3-pin Module (EFH3), Pb-Free (RoHS); Manufacturer: Texas Instruments; PartNumber: PT78NR212H; Iout(Max)(A): 1; SubFamily: Non-Isolated POL; Vin(Max)(V): 15; Vin(Min)(V): 9; DatasheetVersion: SLTS074A; PackageVersion: 4203867/B; PackageReference: EFH3; PackageDescription: 3-Pin Metal In-Line, Body 23.62 x 25.65 mm; Supplier 1: Digi-Key; Supplier Part Number 1: 296-20269-ND; Supplier 2: Newark; Supplier Part Number 2: 75C7206; Supplier 3: Mouser; Supplier Part Number 3: 595-PT78NR212H; Eco-Plan: Pb-Free (RoHS); Regulated Outputs(#): 1; Vout(Max)(V): -12; Vout(Min)(V): -12; Mounting Technology: Through Hole; ComponentLink1Description: Manufacturer URL; ComponentLink1URL: http://www.ti.com/; ComponentLink2Description: Datasheet; ComponentLink2URL: http://www.ti.com/general/docs/lit/getliterature.tsp?genericPartNumber=PT78NR212&fileType=pdf; ComponentLink3Description: Package Specification; ComponentLink3URL: http://www.ti.com/lit/ml/mmsi063a/mmsi063a.pdf; ComponentLink4Description: URL Link1; ComponentLink4URL: Samples URL:http://www.ti.com/product/pt78nr212#samples
footprint TI-EFH3_V (Module, 3-Leads, Body 26.65x23.62mm)
pins: 1 +VIN (power), 2 -VOUT (power), 3 GND (power)

## PT78NR212S
designator U?
-12 V, 10 to 12 W Plus to Minus Voltage ISR, 0 to 85 degC, 3-pin Module (EFJ3), Pb-Free (RoHS); Manufacturer: Texas Instruments; PartNumber: PT78NR212S; Iout(Max)(A): 1; SubFamily: Non-Isolated POL; Vin(Max)(V): 15; Vin(Min)(V): 9; DatasheetVersion: SLTS074A; PackageVersion: 4203868/B; PackageReference: EFJ3; PackageDescription: 3-Pin Metal In-Line, Body 23.62 x 25.65 mm; Supplier 1: Digi-Key; Supplier Part Number 1: 296-20270-ND; Supplier 2: Newark; Supplier Part Number 2: 75C7207; Supplier 3: Mouser; Supplier Part Number 3: 595-PT78NR212S; Eco-Plan: Pb-Free (RoHS); Regulated Outputs(#): 1; Vout(Max)(V): -12; Vout(Min)(V): -12; Mounting Technology: Surface Mount; ComponentLink1Description: Manufacturer URL; ComponentLink1URL: http://www.ti.com/; ComponentLink2Description: Datasheet; ComponentLink2URL: http://www.ti.com/general/docs/lit/getliterature.tsp?genericPartNumber=PT78NR212&fileType=pdf; ComponentLink3Description: Package Specification; ComponentLink3URL: http://www.ti.com/litv/pdf/mmsi064a; ComponentLink4Description: URL Link1; ComponentLink4URL: Samples URL:http://www.ti.com/product/pt78nr212#samples
footprint TI-EFJ3_V (Module, 3-Leads, Body 25.65x23.62mm)
pins: 1 +VIN (power), 2 -VOUT (power), 3 GND (power)

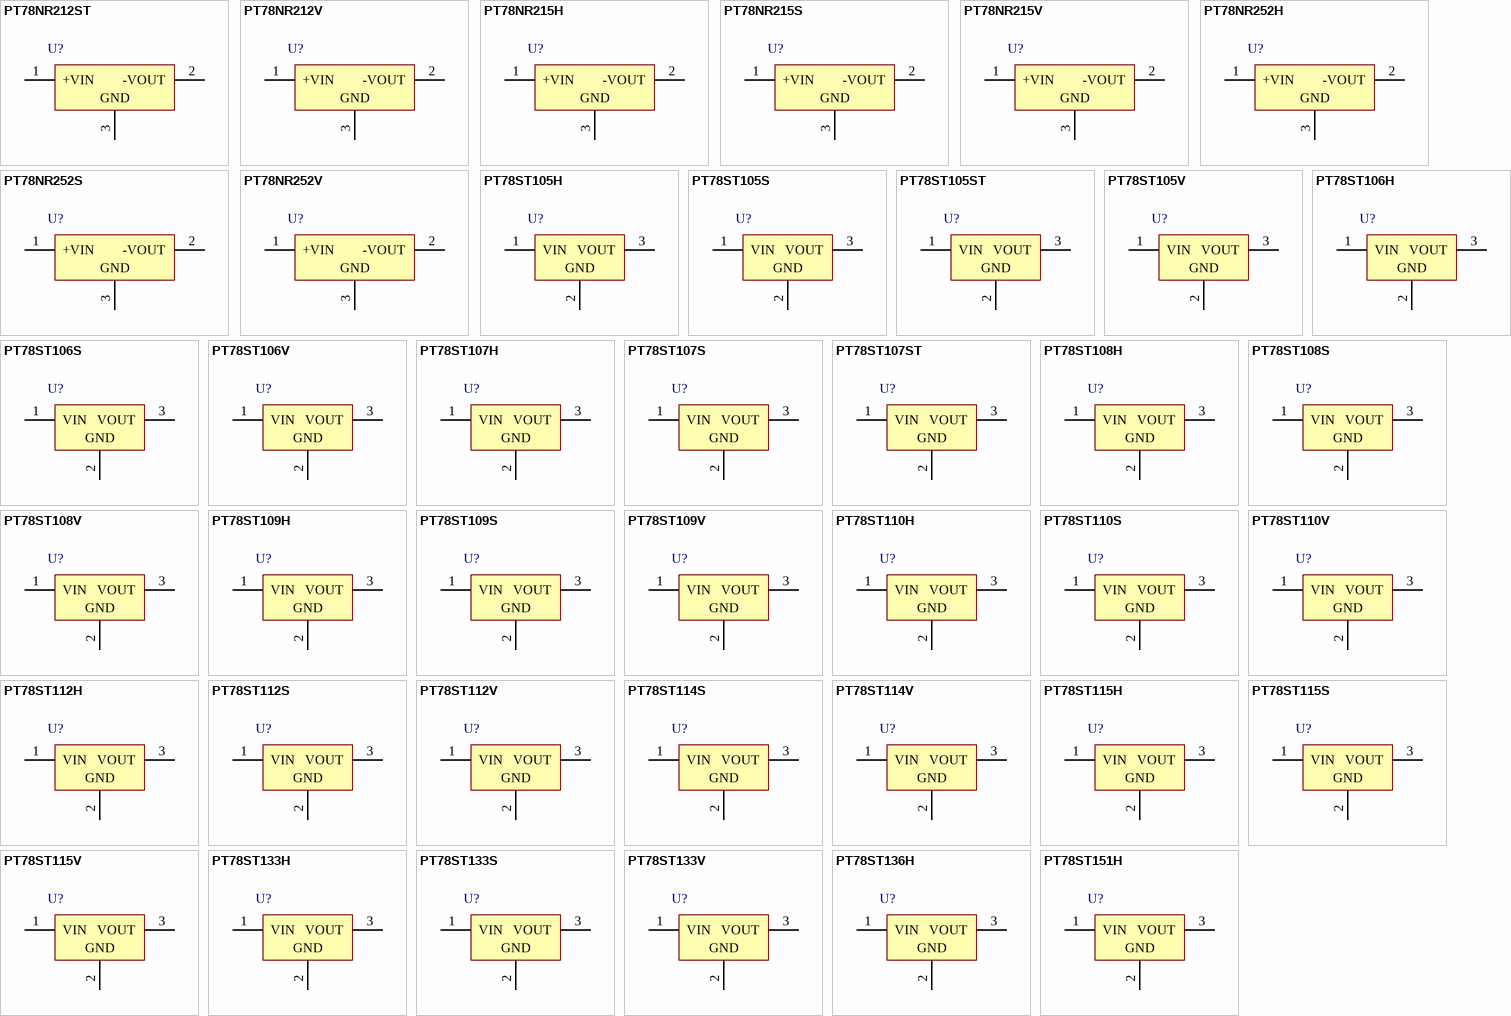
[diagram p5: symbols PT78NR212ST to PT78ST151H]

## PT78NR212ST
designator U?
-12 V, 10 to 12 W Plus to Minus Voltage ISR, 0 to 85 degC, 3-pin Module (EFJ3); Manufacturer: Texas Instruments; PartNumber: PT78NR212ST; Iout(Max)(A): 1; SubFamily: Non-Isolated POL; Vin(Max)(V): 15; Vin(Min)(V): 9; DatasheetVersion: SLTS074A; PackageVersion: 4203868/B; PackageReference: EFJ3; PackageDescription: 3-Pin Metal In-Line, Body 23.62 x 25.65 mm; Supplier 1: Digi-Key; Supplier Part Number 1: PT78NR212ST-ND; Supplier 2: Newark; Supplier Part Number 2: 75C7208; Supplier 3: Mouser; Supplier Part Number 3: 595-PT78NR212ST; Regulated Outputs(#): 1; Vout(Max)(V): -12; Vout(Min)(V): -12; Mounting Technology: Surface Mount; ComponentLink1Description: Manufacturer URL; ComponentLink1URL: http://www.ti.com/; ComponentLink2Description: Datasheet; ComponentLink2URL: http://www.ti.com/general/docs/lit/getliterature.tsp?genericPartNumber=PT78NR212&fileType=pdf; ComponentLink3Description: Package Specification; ComponentLink3URL: http://www.ti.com/litv/pdf/mmsi064a; ComponentLink4Description: URL Link1; ComponentLink4URL: Samples URL:http://www.ti.com/product/pt78nr212#samples
footprint TI-EFJ3_V (Module, 3-Leads, Body 25.65x23.62mm)
pins: 1 +VIN (power), 2 -VOUT (power), 3 GND (power)

## PT78NR212V
designator U?
-12 V, 10 to 12 W Plus to Minus Voltage ISR, 0 to 85 degC, 3-pin Module (EFF3), Pb-Free (RoHS); Manufacturer: Texas Instruments; PartNumber: PT78NR212V; Iout(Max)(A): 1; SubFamily: Non-Isolated POL; Vin(Max)(V): 15; Vin(Min)(V): 9; DatasheetVersion: SLTS074A; PackageVersion: 4203866/B; PackageReference: EFF3; PackageDescription: 3-Pin Metal In-Line, Body 24.89 x 25.65 mm; Supplier 1: Digi-Key; Supplier Part Number 1: 296-20271-ND; Supplier 2: Newark; Supplier Part Number 2: 75C7209; Supplier 3: Mouser; Supplier Part Number 3: 595-PT78NR212V; Eco-Plan: Pb-Free (RoHS); Regulated Outputs(#): 1; Vout(Max)(V): -12; Vout(Min)(V): -12; Mounting Technology: Through Hole; ComponentLink1Description: Manufacturer URL; ComponentLink1URL: http://www.ti.com/; ComponentLink2Description: Datasheet; ComponentLink2URL: http://www.ti.com/general/docs/lit/getliterature.tsp?genericPartNumber=PT78NR212&fileType=pdf; ComponentLink3Description: Package Specification; ComponentLink3URL: http://www.ti.com/lit/ml/mmsi062a/mmsi062a.pdf; ComponentLink4Description: URL Link1; ComponentLink4URL: Samples URL:http://www.ti.com/product/pt78nr212#samples
footprint TI-EFF3_V (Module, 3-Leads, Body 25.65x9.65mm)
pins: 1 +VIN (power), 2 -VOUT (power), 3 GND (power)

## PT78NR215H
designator U?
-15 V, 10 to 12 W Plus to Minus Voltage ISR, 0 to 85 degC, 3-pin Module (EFH3), Pb-Free (RoHS); Manufacturer: Texas Instruments; PartNumber: PT78NR215H; Iout(Max)(A): 0.8; Regulated Outputs(#): 1; SubFamily: Non-Isolated POL; Vin(Max)(V): 15; Vin(Min)(V): 9; DatasheetVersion: SLTS074A; PackageVersion: 4203867/B; PackageReference: EFH3; PackageDescription: 3-Pin Metal In-Line, Body 23.62 x 25.65 mm; Supplier 1: Digi-Key; Supplier Part Number 1: 296-20272-ND; Supplier 2: Newark; Supplier Part Number 2: 75C7210; Supplier 3: Mouser; Supplier Part Number 3: 595-PT78NR215H; Eco-Plan: Pb-Free (RoHS); Vout(Max)(V): -15; Vout(Min)(V): -15; Mounting Technology: Through Hole; ComponentLink1Description: Manufacturer URL; ComponentLink1URL: http://www.ti.com/; ComponentLink2Description: Datasheet; ComponentLink2URL: http://www.ti.com/general/docs/lit/getliterature.tsp?genericPartNumber=PT78NR215&fileType=pdf; ComponentLink3Description: Package Specification; ComponentLink3URL: http://www.ti.com/lit/ml/mmsi063a/mmsi063a.pdf; ComponentLink4Description: URL Link1; ComponentLink4URL: Samples URL:http://www.ti.com/product/pt78nr215#samples
footprint TI-EFH3_V (Module, 3-Leads, Body 26.65x23.62mm)
pins: 1 +VIN (power), 2 -VOUT (power), 3 GND (power)

## PT78NR215S
designator U?
-15 V, 10 to 12 W Plus to Minus Voltage ISR, 0 to 85 degC, 3-pin Module (EFJ3), Pb-Free (RoHS); Manufacturer: Texas Instruments; PartNumber: PT78NR215S; Iout(Max)(A): 0.8; Regulated Outputs(#): 1; SubFamily: Non-Isolated POL; Vin(Max)(V): 15; Vin(Min)(V): 9; DatasheetVersion: SLTS074A; PackageVersion: 4203868/B; PackageReference: EFJ3; PackageDescription: 3-Pin Metal In-Line, Body 23.62 x 25.65 mm; Supplier 1: Digi-Key; Supplier Part Number 1: 296-20273-ND; Supplier 2: Newark; Supplier Part Number 2: 75C7211; Supplier 3: Mouser; Supplier Part Number 3: 595-PT78NR215S; Eco-Plan: Pb-Free (RoHS); Vout(Max)(V): -15; Vout(Min)(V): -15; Mounting Technology: Surface Mount; ComponentLink1Description: Manufacturer URL; ComponentLink1URL: http://www.ti.com/; ComponentLink2Description: Datasheet; ComponentLink2URL: http://www.ti.com/general/docs/lit/getliterature.tsp?genericPartNumber=PT78NR215&fileType=pdf; ComponentLink3Description: Package Specification; ComponentLink3URL: http://www.ti.com/litv/pdf/mmsi064a; ComponentLink4Description: URL Link1; ComponentLink4URL: Samples URL:http://www.ti.com/product/pt78nr215#samples
footprint TI-EFJ3_V (Module, 3-Leads, Body 25.65x23.62mm)
pins: 1 +VIN (power), 2 -VOUT (power), 3 GND (power)

## PT78NR215V
designator U?
-15 V, 10 to 12 W Plus to Minus Voltage ISR, 0 to 85 degC, 3-pin Module (EFF3), Pb-Free (RoHS); Manufacturer: Texas Instruments; PartNumber: PT78NR215V; Iout(Max)(A): 0.8; Regulated Outputs(#): 1; SubFamily: Non-Isolated POL; Vin(Max)(V): 15; Vin(Min)(V): 9; DatasheetVersion: SLTS074A; PackageVersion: 4203866/B; PackageReference: EFF3; PackageDescription: 3-Pin Metal In-Line, Body 24.89 x 25.65 mm; Supplier 1: Digi-Key; Supplier Part Number 1: 296-20274-ND; Supplier 2: Newark; Supplier Part Number 2: 75C7213; Supplier 3: Mouser; Supplier Part Number 3: 595-PT78NR215V; Eco-Plan: Pb-Free (RoHS); Vout(Max)(V): -15; Vout(Min)(V): -15; Mounting Technology: Through Hole; ComponentLink1Description: Manufacturer URL; ComponentLink1URL: http://www.ti.com/; ComponentLink2Description: Datasheet; ComponentLink2URL: http://www.ti.com/general/docs/lit/getliterature.tsp?genericPartNumber=PT78NR215&fileType=pdf; ComponentLink3Description: Package Specification; ComponentLink3URL: http://www.ti.com/lit/ml/mmsi062a/mmsi062a.pdf; ComponentLink4Description: URL Link1; ComponentLink4URL: Samples URL:http://www.ti.com/product/pt78nr215#samples
footprint TI-EFF3_V (Module, 3-Leads, Body 25.65x9.65mm)
pins: 1 +VIN (power), 2 -VOUT (power), 3 GND (power)

## PT78NR252H
designator U?
-5.2 V, 10 to 12 W Plus to Minus Voltage ISR, 0 to 85 degC, 3-pin Module (EFH3), Pb-Free (RoHS); Manufacturer: Texas Instruments; PartNumber: PT78NR252H; Iout(Max)(A): 2; Regulated Outputs(#): 1; SubFamily: Non-Isolated POL; Vin(Max)(V): 15; Vin(Min)(V): 9; DatasheetVersion: SLTS074A; PackageVersion: 4203867/B; PackageReference: EFH3; PackageDescription: 3-Pin Metal In-Line, Body 23.62 x 25.65 mm; Supplier 1: Digi-Key; Supplier Part Number 1: 296-32703-ND; Supplier 2: Mouser; Supplier Part Number 2: 595-PT78NR252H; Eco-Plan: Pb-Free (RoHS); Vout(Max)(V): -5.2; Vout(Min)(V): -5.2; Mounting Technology: Through Hole; ComponentLink1Description: Manufacturer URL; ComponentLink1URL: http://www.ti.com/; ComponentLink2Description: Datasheet; ComponentLink2URL: http://www.ti.com/general/docs/lit/getliterature.tsp?genericPartNumber=PT78NR252&fileType=pdf; ComponentLink3Description: Package Specification; ComponentLink3URL: http://www.ti.com/lit/ml/mmsi063a/mmsi063a.pdf; ComponentLink4Description: URL Link1; ComponentLink4URL: Samples URL:http://www.ti.com/product/pt78nr252#samples
footprint TI-EFH3_V (Module, 3-Leads, Body 26.65x23.62mm)
pins: 1 +VIN (power), 2 -VOUT (power), 3 GND (power)